# Altium footprint library max9914exk&plus_t.PcbLib: 3 footprints
Each footprint in its own frame and in the unit in brackets; x right, y up, seen from the top. Pads: shape width x height; smd on the part's side, far side on the other; paste and mask are expansions set on the pad; w line width, h text height; cw(c..) or ccw(c..) is an arc to the next point about the centre after c.
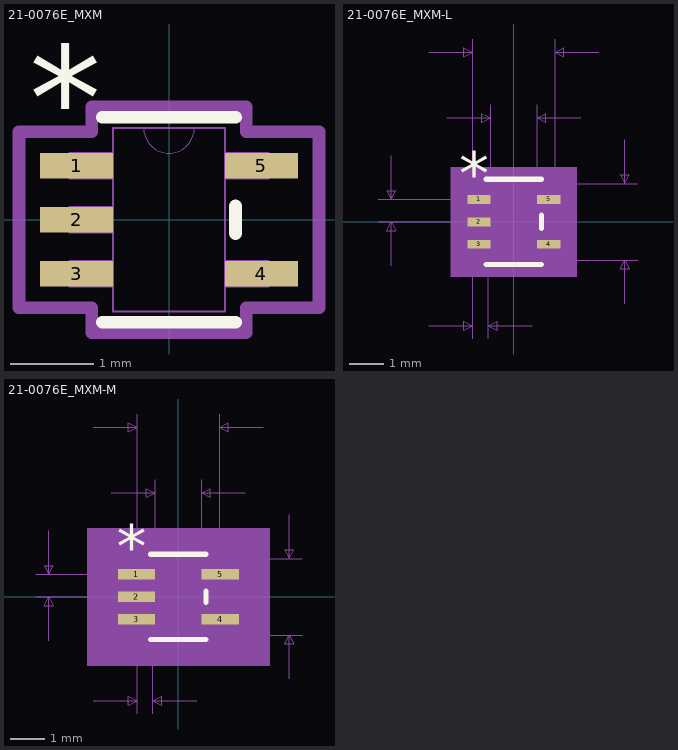
[diagram p0: the footprints below, top view; thin cyan lines are the x and y axes]

## 21-0076E_MXM [mil]
pads (5):
  rect 34.5x12 smd paste+0 mask+0: 1(-43.75,25.59) 2(-43.75,0) 3(-43.75,-25.59) 4(43.75,-25.59) 5(43.75,25.59)
Top Overlay:
  lines w6: -31.5,-48.5 31.5,-48.5 ; -31.5,48.5 31.5,48.5 ; 31.5,-6.49 31.5,6.49
  text "*" at -66.25,32.59 h50
Mechanical 13:
  lines w0: -12,43.5 ccw(c0,43.5) 12,43.5
  lines w1: -47,-31.59 -26.5,-31.59 -26.5,-19.59 -47,-19.59 -47,-31.59 ; -47,-6 -26.5,-6 -26.5,6 -47,6 -47,-6 ; -47,19.59 -26.5,19.59 -26.5,31.59 -47,31.59 -47,19.59 ; -26.5,-43.5 -26.5,43.5 26.5,43.5 26.5,-43.5 -26.5,-43.5 ; 26.5,-31.59 47,-31.59 47,-19.59 26.5,-19.59 26.5,-31.59 ; 26.5,19.59 47,19.59 47,31.59 26.5,31.59 26.5,19.59
  text "*" at -29,-5.41 h50
Mechanical 15:
  lines w6: -71,-41.59 -71,41.59 -36.5,41.59 -36.5,53.5 36.5,53.5 36.5,41.59 71,41.59 71,-41.59 36.5,-41.59 36.5,-53.5 -36.5,-53.5 -36.5,-41.59 -71,-41.59
3D body "21-0076E_MXM.step": height 43.11, standoff 0, extent -47.01,-43.5 47.01,43.5
3D body: height 10, standoff 0, extent 0,0 10,10

## 21-0076E_MXM-L [mil]
pads (5):
  rect 26.5x10 smd paste+0 mask+0: 1(-39.75,25.59) 2(-39.75,0) 3(-39.75,-25.59) 4(39.75,-25.59) 5(39.75,25.59)
Top Overlay:
  lines w6: -31.5,-48.5 31.5,-48.5 ; -31.5,48.5 31.5,48.5 ; 31.5,-7.49 31.5,7.49
  text "*" at -62.25,30.59 h50
Mechanical 5:
  region: 72,-62.5 -72,-62.5 -72,62.5 72,62.5
Mechanical 7:
  lines w1: -154.75,0 -39.75,0 ; -154.75,25.59 -39.75,25.59 ; -139.75,-50 -139.75,0 ; -139.75,75.59 -139.75,25.59 ; -97,-118.5 -47,-118.5 ; -97,193.5 -47,193.5 ; -76.5,118.5 -26.5,118.5 ; -47,-133.5 -47,0 -47,208.5 ; -29,-133.5 -29,0 ; -26.5,0 -26.5,133.5 ; 0,-43.5 141.5,-43.5 ; 0,43.5 141.5,43.5 ; 21,-118.5 -29,-118.5 ; 26.5,0 26.5,133.5 ; 47,0 47,208.5 ; 76.5,118.5 26.5,118.5 ; 97,193.5 47,193.5 ; 126.5,-93.5 126.5,-43.5 ; 126.5,93.5 126.5,43.5 ; -139.75,0 -144.75,-10 -134.75,-10 -139.75,0 ; -139.75,25.59 -144.75,35.59 -134.75,35.59 -139.75,25.59 ; -47,-118.5 -57,-113.5 -57,-123.5 -47,-118.5 ; -47,193.5 -57,198.5 -57,188.5 -47,193.5 ; -29,-118.5 -19,-113.5 -19,-123.5 -29,-118.5 ; -26.5,118.5 -36.5,123.5 -36.5,113.5 -26.5,118.5 ; 26.5,118.5 36.5,123.5 36.5,113.5 26.5,118.5 ; 47,193.5 57,198.5 57,188.5 47,193.5 ; 126.5,-43.5 121.5,-53.5 131.5,-53.5 126.5,-43.5 ; 126.5,43.5 121.5,53.5 131.5,53.5 126.5,43.5
  text "Default Padstyle: RX26p5Y10D0T" at -375,-243.5 h50
  text "Pin 1 Padstyle: RX26p5Y10D0T" at -350,-303.5 h50
  text "Alt 1 Padstyle: OX60Y90D30P" at -337.5,-483.5 h50
  text "Alt 2 Padstyle: OX90Y60D30P" at -337.5,-543.5 h50
  text "0.053in/1.346mm" at -93.75,138.5 h25
  text "0.094in/2.388mm" at -93.75,213.5 h25
  text "0.087in/2.21mm" at 146.5,-12.5 h25
  text "0.026in/0.65mm" at -334.75,0.3 h25
  text "0.018in/0.457mm" at -131.75,-163.5 h25
Mechanical 13:
  lines w0: -12,43.5 ccw(c0,43.5) 12,43.5
  lines w1: -47,-31.59 -47,-19.59 -26.5,-19.59 -26.5,-31.59 -47,-31.59 ; -47,-6 -47,6 -26.5,6 -26.5,-6 -47,-6 ; -47,19.59 -47,31.59 -26.5,31.59 -26.5,19.59 -47,19.59 ; -26.5,-43.5 26.5,-43.5 26.5,43.5 -26.5,43.5 -26.5,-43.5 ; 26.5,-31.59 26.5,-19.59 47,-19.59 47,-31.59 26.5,-31.59 ; 26.5,19.59 26.5,31.59 47,31.59 47,19.59 26.5,19.59
  text "*" at -29,-7.41 h50
Mechanical 15:
  region: 30.5,-47.5 -30.5,-47.5 -30.5,-34.59 -57,-34.59 -57,34.59 -30.5,34.59 -30.5,47.5 30.5,47.5 30.5,34.59 57,34.59 57,-34.59 30.5,-34.59
  lines w6: -57,-34.59 -30.5,-34.59 -30.5,-47.5 30.5,-47.5 30.5,-34.59 57,-34.59 57,34.59 30.5,34.59 30.5,47.5 -30.5,47.5 -30.5,34.59 -57,34.59 -57,-34.59
3D body: height 10, standoff 0, extent 0,0 10,10

## 21-0076E_MXM-M [mil]
pads (5):
  rect 42.5x12 smd paste+0 mask+0: 1(-47.75,25.59) 2(-47.75,0) 3(-47.75,-25.59) 4(47.75,-25.59) 5(47.75,25.59)
Top Overlay:
  lines w6: -31.5,-48.5 31.5,-48.5 ; -31.5,48.5 31.5,48.5 ; 31.5,-6.49 31.5,6.49
  text "*" at -70.25,32.59 h50
Mechanical 5:
  region: 104,-78.5 -104,-78.5 -104,78.5 104,78.5
Mechanical 7:
  lines w1: -162.75,0 -47.75,0 ; -162.75,25.59 -47.75,25.59 ; -147.75,-50 -147.75,0 ; -147.75,75.59 -147.75,25.59 ; -97,-118.5 -47,-118.5 ; -97,193.5 -47,193.5 ; -76.5,118.5 -26.5,118.5 ; -47,-133.5 -47,0 -47,208.5 ; -29,-133.5 -29,0 ; -26.5,0 -26.5,133.5 ; 0,-43.5 141.5,-43.5 ; 0,43.5 141.5,43.5 ; 21,-118.5 -29,-118.5 ; 26.5,0 26.5,133.5 ; 47,0 47,208.5 ; 76.5,118.5 26.5,118.5 ; 97,193.5 47,193.5 ; 126.5,-93.5 126.5,-43.5 ; 126.5,93.5 126.5,43.5 ; -147.75,0 -152.75,-10 -142.75,-10 -147.75,0 ; -147.75,25.59 -152.75,35.59 -142.75,35.59 -147.75,25.59 ; -47,-118.5 -57,-113.5 -57,-123.5 -47,-118.5 ; -47,193.5 -57,198.5 -57,188.5 -47,193.5 ; -29,-118.5 -19,-113.5 -19,-123.5 -29,-118.5 ; -26.5,118.5 -36.5,123.5 -36.5,113.5 -26.5,118.5 ; 26.5,118.5 36.5,123.5 36.5,113.5 26.5,118.5 ; 47,193.5 57,198.5 57,188.5 47,193.5 ; 126.5,-43.5 121.5,-53.5 131.5,-53.5 126.5,-43.5 ; 126.5,43.5 121.5,53.5 131.5,53.5 126.5,43.5
  text "Default Padstyle: RX42p5Y12D0T" at -375,-243.5 h50
  text "Pin 1 Padstyle: RX42p5Y12D0T" at -350,-303.5 h50
  text "Alt 1 Padstyle: OX60Y90D30P" at -337.5,-483.5 h50
  text "Alt 2 Padstyle: OX90Y60D30P" at -337.5,-543.5 h50
  text "0.053in/1.346mm" at -93.75,138.5 h25
  text "0.094in/2.388mm" at -93.75,213.5 h25
  text "0.087in/2.21mm" at 146.5,-12.5 h25
  text "0.026in/0.65mm" at -342.75,0.3 h25
  text "0.018in/0.457mm" at -131.75,-163.5 h25
Mechanical 13:
  lines w0: -12,43.5 ccw(c0,43.5) 12,43.5
  lines w1: -47,-31.59 -47,-19.59 -26.5,-19.59 -26.5,-31.59 -47,-31.59 ; -47,-6 -47,6 -26.5,6 -26.5,-6 -47,-6 ; -47,19.59 -47,31.59 -26.5,31.59 -26.5,19.59 -47,19.59 ; -26.5,-43.5 26.5,-43.5 26.5,43.5 -26.5,43.5 -26.5,-43.5 ; 26.5,-31.59 26.5,-19.59 47,-19.59 47,-31.59 26.5,-31.59 ; 26.5,19.59 26.5,31.59 47,31.59 47,19.59 26.5,19.59
  text "*" at -29,-5.41 h50
Mechanical 15:
  region: 46.5,-63.5 -46.5,-63.5 -46.5,-51.59 -89,-51.59 -89,51.59 -46.5,51.59 -46.5,63.5 46.5,63.5 46.5,51.59 89,51.59 89,-51.59 46.5,-51.59
  lines w6: -89,-51.59 -46.5,-51.59 -46.5,-63.5 46.5,-63.5 46.5,-51.59 89,-51.59 89,51.59 46.5,51.59 46.5,63.5 -46.5,63.5 -46.5,51.59 -89,51.59 -89,-51.59
3D body: height 10, standoff 0, extent 0,0 10,10